# EAGLE library part MAX5216 (library joakim)
DIGITAL/ANALOG CONVERTER Covers MAX5214 (14 bit), MAX5216 (16 bit)
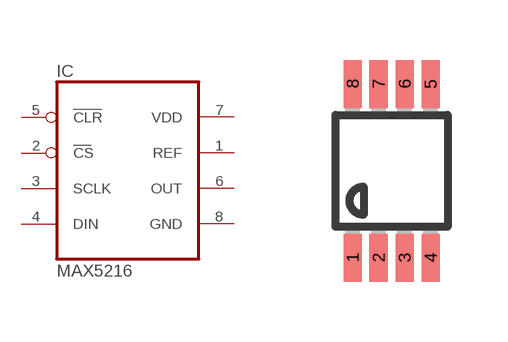
[diagram p21: symbol with the pads of UMAX8J; footprint UMAX8J]

Designator prefix IC

## MAX5216  [UMAX8J]
1  REF  in
2  CS  in
3  SCLK  in
4  DIN  in
5  CLR  in
6  OUT  sup
7  VDD  pwr
8  GND  pwr

## Footprint UMAX8J (pad centres in mm)
micro MAX Package
smd 0.45 x 1.2: 1 -0.975,-2.175; 2 -0.325,-2.175; 3 0.325,-2.175; 4 0.975,-2.175; 5 0.975,2.175; 6 0.325,2.175; 7 -0.325,2.175; 8 -0.975,2.175